# EAGLE library part PIC12LF1571 (library yapo)
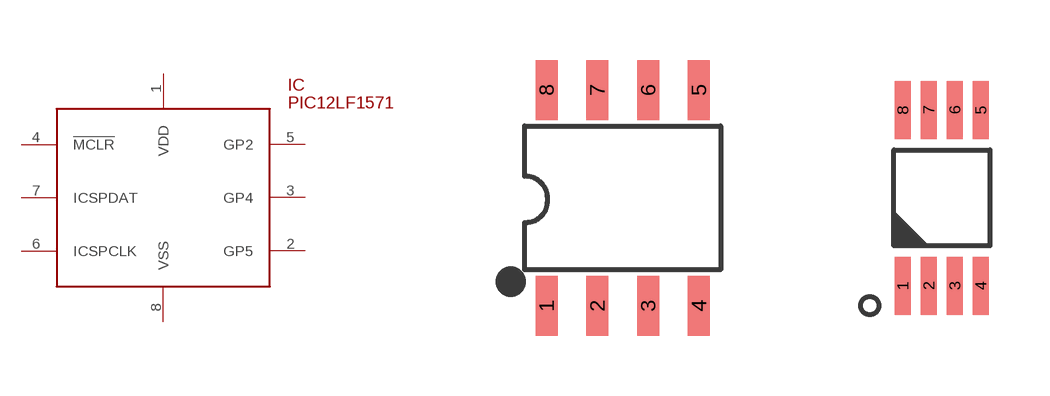
[diagram p8: symbol with the pads of SOIC8; footprints SOIC8, MSOP8]

Designator prefix IC

## PIC12LF1571  [SOIC8]
1  VDD
2  GP5
3  GP4
4  !MCLR!
5  GP2
6  ICSPCLK
7  ICSPDAT
8  VSS

## PIC12LF1571MSOP8  [MSOP8]
Pads as for SOIC8

## Footprint SOIC8 (pad centres in mm)
smd 0.55 x 1.5: 1 -1.905,-2.7; 2 -0.635,-2.7; 3 0.635,-2.7; 4 1.905,-2.7; 5 1.905,2.7; 6 0.635,2.7; 7 -0.635,2.7; 8 -1.905,2.7

## Footprint MSOP8 (pad centres in mm)
smd 0.4 x 1.45: 1 -0.975,-2.2; 2 -0.325,-2.2; 3 0.325,-2.2; 4 0.975,-2.2; 5 0.975,2.2; 6 0.325,2.2; 7 -0.325,2.2; 8 -0.975,2.2